# EAGLE library part SIM900 (library sim900)
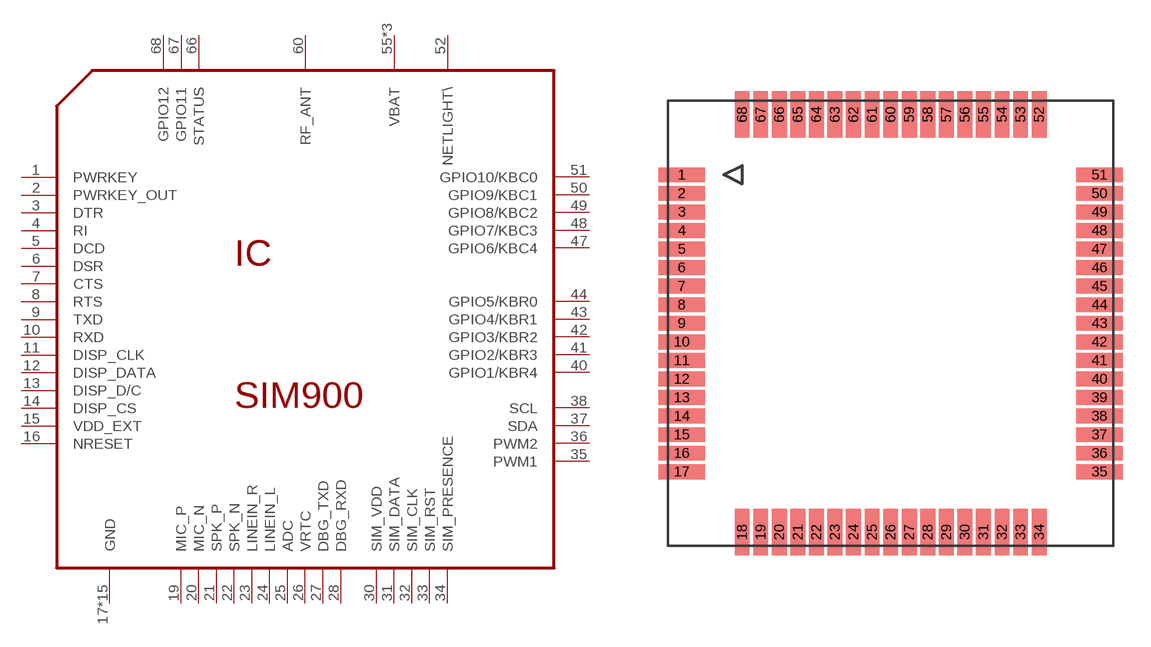
[diagram p0: symbol with the pads of SIM900; footprint SIM900]

Designator prefix IC

## SIM900  [SIM900]
1  PWRKEY
2  PWRKEY_OUT
3  DTR
4  RI
5  DCD
6  DSR
7  CTS
8  RTS
9  TXD
10  RXD
11  DISP_CLK
12  DISP_DATA
13  DISP_D/C
14  DISP_CS
15  VDD_EXT
16  NRESET
17  GND
18  GND
19  MIC_P
20  MIC_N
21  SPK_P
22  SPK_N
23  LINEIN_R
24  LINEIN_L
25  ADC
26  VRTC
27  DBG_TXD
28  DBG_RXD
29  GND
30  SIM_VDD
31  SIM_DATA
32  SIM_CLK
33  SIM_RST
34  SIM_PRESENCE
35  PWM1
36  PWM2
37  SDA
38  SCL
39  GND
40  GPIO1/KBR4
41  GPIO2/KBR3
42  GPIO3/KBR2
43  GPIO4/KBR1
44  GPIO5/KBR0
45  GND
46  GND
47  GPIO6/KBC4
48  GPIO7/KBC3
49  GPIO8/KBC2
50  GPIO9/KBC1
51  GPIO10/KBC0
52  NETLIGHT\
53  GND
54  GND
55  VBAT
56  VBAT
57  VBAT
58  GND
59  GND
60  RF_ANT
61  GND
62  GND
63  GND
64  GND
65  GND
66  STATUS
67  GPIO11
68  GPIO12

## Footprint SIM900 (pad centres in mm)
smd 2.5 x 0.8: 1 -11.25,8; 2 -11.25,7; 3 -11.25,6; 4 -11.25,5; 5 -11.25,4; 6 -11.25,3; 7 -11.25,2; 8 -11.25,1; 9 -11.25,0; 10 -11.25,-1; 11 -11.25,-2; 12 -11.25,-3; 13 -11.25,-4; 14 -11.25,-5; 15 -11.25,-6; 16 -11.25,-7; 17 -11.25,-8; 35 11.25,-8; 36 11.25,-7; 37 11.25,-6; 38 11.25,-5; 39 11.25,-4; 40 11.25,-3; 41 11.25,-2; 42 11.25,-1; 43 11.25,0; 44 11.25,1; 45 11.25,2; 46 11.25,3; 47 11.25,4; 48 11.25,5; 49 11.25,6; 50 11.25,7; 51 11.25,8
smd 0.8 x 2.5: 18 -8,-11.25; 19 -7,-11.25; 20 -6,-11.25; 21 -5,-11.25; 22 -4,-11.25; 23 -3,-11.25; 24 -2,-11.25; 25 -1,-11.25; 26 0,-11.25; 27 1,-11.25; 28 2,-11.25; 29 3,-11.25; 30 4,-11.25; 31 5,-11.25; 32 6,-11.25; 33 7,-11.25; 34 8,-11.25; 52 8,11.25; 53 7,11.25; 54 6,11.25; 55 5,11.25; 56 4,11.25; 57 3,11.25; 58 2,11.25; 59 1,11.25; 60 0,11.25; 61 -1,11.25; 62 -2,11.25; 63 -3,11.25; 64 -4,11.25; 65 -5,11.25; 66 -6,11.25; 67 -7,11.25; 68 -8,11.25